# EAGLE library part UPB1509GV (library baiyun)
1GHz Counter
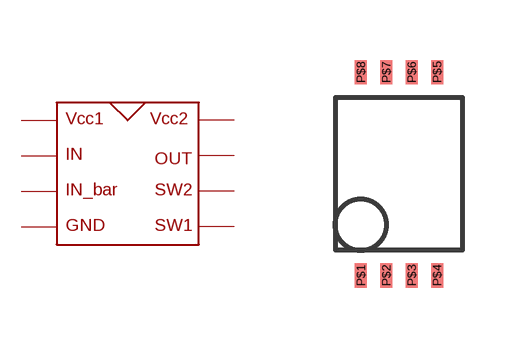
[diagram p205: symbol with the pads of SSOP08; footprint SSOP08]

Designator prefix -

## UPB1509GV  [SSOP08]
P$1  P$1
P$2  P$2
P$3  P$3
P$4  P$4
P$5  P$5
P$6  P$6
P$7  P$7
P$8  P$8

## Footprint SSOP08 (pad centres in mm)
smd 0.305 x 0.61: P$1 0,0; P$2 0.635,0; P$3 1.27,0; P$4 1.905,0; P$5 1.905,5.08; P$6 1.27,5.08; P$7 0.635,5.08; P$8 0,5.08